# Altium footprint library Crys_NDK_NX3225GA-26MHZ-TI_eec_0.PcbLib: 1 footprints
Each footprint in its own frame and in the unit in brackets; x right, y up, seen from the top. Pads: shape width x height; smd on the part's side, far side on the other; paste and mask are expansions set on the pad; w line width, h text height; cw(c..) or ccw(c..) is an arc to the next point about the centre after c.
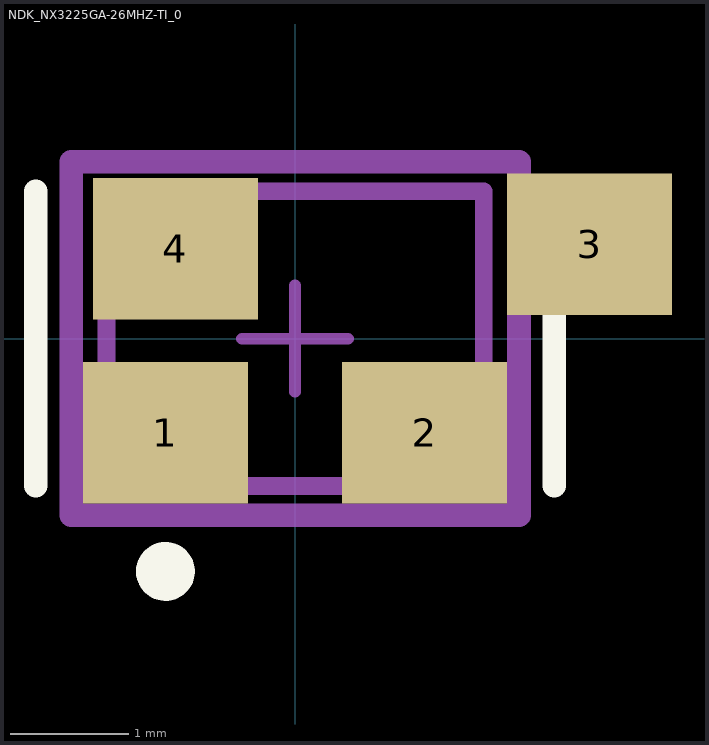
[diagram p0: the footprint, top view; thin cyan lines are the x and y axes]

## NDK_NX3225GA-26MHZ-TI_0 [mm]
pads (4):
  rect 1.4x1.2 smd paste+0 mask+0: 1(-1.1,-0.8) 2(1.1,-0.8) 3(2.5,0.8) 4(-1.016,0.762)
Top Overlay:
  circle w0.25: c-1.1,-1.975 r0.125
  lines w0.2: -2.2,-1.25 -2.2,1.25 ; 2.2,-1.25 2.2,1.25
Mechanical 10:
  lines w0.2: -1.9,-1.5 1.9,-1.5 1.9,1.5 -1.9,1.5 -1.9,-1.5
  text ".Designator" at 0,0 h1
Mechanical 12:
  lines w0.15: -1.6,-1.25 1.6,-1.25 1.6,1.25 -1.6,1.25 -1.6,-1.25
Mechanical 15:
  lines w0.1: -0.45,0 0.45,0 ; 0,-0.45 0,0.45
  lines w0.2: -1.9,-1.5 1.9,-1.5 1.9,1.5 -1.9,1.5 -1.9,-1.5
3D body "Crys_NDK_NX3225GA-26MHZ-TI_eec.STEP": height 0.25, standoff 0, extent -1.9,-1.524 1.9,1.476